# Altium schematic symbol library TPD8S300RUKR.Schlib: 1 symbol
Pins are listed as number, name and electrical type; pins without a type are passive.

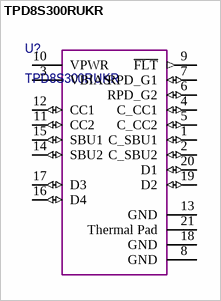
[diagram p0: symbol TPD8S300RUKR]

## TPD8S300RUKR
designator U?
pins: 1 C_SBU1 (io), 2 C_SBU2 (io), 3 VBIAS (power), 4 C_CC1 (io), 5 C_CC2 (io), 6 RPD_G2 (io), 7 RPD_G1 (io), 8 GND (power), 9 ~{FLT} (out), 10 VPWR (power), 11 CC2 (io), 12 CC1 (io), 13 GND (power), 14 SBU2 (io), 15 SBU1 (io), 16 D4 (io), 17 D3 (io), 18 GND (power), 19 D2 (io), 20 D1 (io), 21 Thermal Pad (power)